# EAGLE library part FH19C-6S-0.5SH (library SSI)
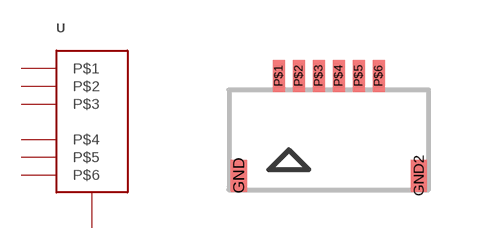
[diagram p26: symbol with the pads of FH19C-6S-0.5SH; footprint FH19C-6S-0.5SH]

Designator prefix -

## FH19C-6S-0.5SH  [FH19C-6S-0.5SH]
GND  GND
GND2  GND
P$1  P$1
P$2  P$2
P$3  P$3
P$4  P$4
P$5  P$5
P$6  P$6

## Footprint FH19C-6S-0.5SH (pad centres in mm)
smd 0.4 x 0.8: GND -2.25,-0.92; GND2 2.25,-0.92
smd 0.3 x 0.8: P$1 -1.25,1.58; P$2 -0.75,1.58; P$3 -0.25,1.58; P$4 0.25,1.58; P$5 0.75,1.58; P$6 1.25,1.58